# Altium footprint library YakupTrkn.PcbLib: 4 footprints
Each footprint in its own frame and in the unit in brackets; x right, y up, seen from the top. Pads: shape width x height; smd on the part's side, far side on the other; paste and mask are expansions set on the pad; w line width, h text height; cw(c..) or ccw(c..) is an arc to the next point about the centre after c.
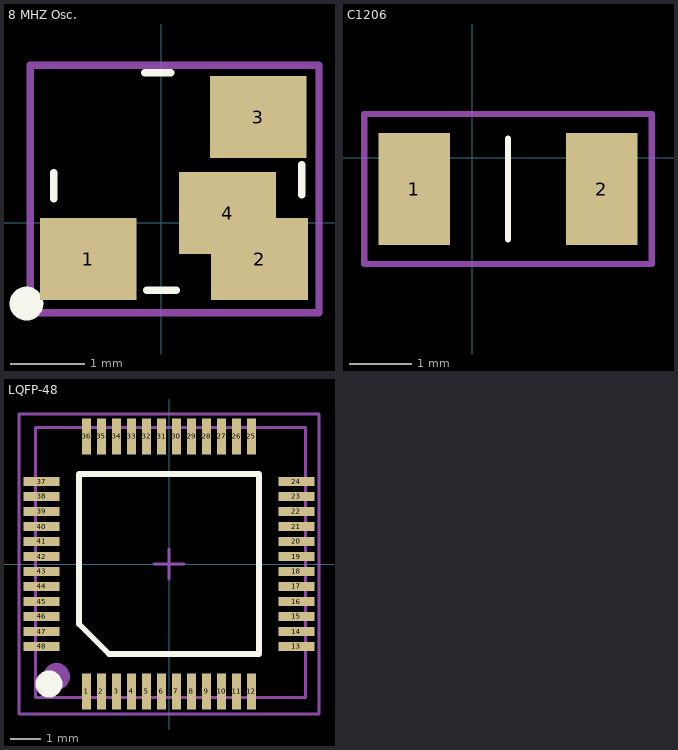
[diagram p0: the footprints below, top view; thin cyan lines are the x and y axes]

## 8 MHZ Osc. [mm]
pads (4):
  rect 1.3x1.1 smd mask+0.05: 1(-0.981,-0.49) 2(1.319,-0.49) 3(1.303,1.417) 4(0.889,0.127)
Top Overlay:
  circle w0.254: c-1.812,-1.089 r0.1
  lines w0.1: -1.445,0.318 -1.445,0.672 ; -0.224,2.01 0.13,2.01 ; -0.199,-0.911 0.201,-0.911 ; 1.884,0.376 1.884,0.776
Top Component Center:
  circle w0.254: c-1.216,-0.524 r0.1
  lines w0.1: -1.761,-1.211 -1.761,2.113 2.118,2.113 2.118,-1.211 -1.761,-1.211
3D body "ASE3.STEP": height 1.22, standoff -0.03, extent -1.379,-0.641 1.821,1.859

## C1206 [mm]
pads (2):
  rect 1.15x1.8 smd mask+0.05: 1(-0.925,-0.5) 2(2.075,-0.5)
Top Overlay:
  lines w0.1: 0.575,-1.305 0.575,0.305
Top Component Center:
  lines w0.1: -1.725,-1.7 -1.725,0.7 2.875,0.7 2.875,-1.7 -1.725,-1.7
3D body "1206CAP.step": height 1, standoff 0, extent -1.025,-1.3 2.175,0.3

## LQFP-48 [mm] "7mm x 7mm"
pads (48):
  rect 0.3x1.2 smd mask+0.05: 1(-2.75,-4.25) 2(-2.25,-4.25) 3(-1.75,-4.25) 4(-1.25,-4.25) 5(-0.75,-4.25) 6(-0.25,-4.25) 7(0.25,-4.25) 8(0.75,-4.25) 9(1.25,-4.25) 10(1.75,-4.25) 11(2.25,-4.25) 12(2.75,-4.25) 25(2.75,4.25) 26(2.25,4.25) 27(1.75,4.25) 28(1.25,4.25) 29(0.75,4.25) 30(0.25,4.25) 31(-0.25,4.25) 32(-0.75,4.25) 33(-1.25,4.25) 34(-1.75,4.25) 35(-2.25,4.25) 36(-2.75,4.25)
  rect 1.2x0.3 smd mask+0.05: 13(4.25,-2.75) 14(4.25,-2.25) 15(4.25,-1.75) 16(4.25,-1.25) 17(4.25,-0.75) 18(4.25,-0.25) 19(4.25,0.25) 20(4.25,0.75) 21(4.25,1.25) 22(4.25,1.75) 23(4.25,2.25) 24(4.25,2.75) 37(-4.25,2.75) 38(-4.25,2.25) 39(-4.25,1.75) 40(-4.25,1.25) 41(-4.25,0.75) 42(-4.25,0.25) 43(-4.25,-0.25) 44(-4.25,-0.75) 45(-4.25,-1.25) 46(-4.25,-1.75) 47(-4.25,-2.25) 48(-4.25,-2.75)
Top Overlay:
  circle w0.5: c-4,-4 r0.2
  lines w0.2: -3,-2 -2,-3 3,-3 3,3 -3,3 -3,-2
Top 3D Body:
  circle w0.5: c-3.75,-3.75 r0.2
  lines w0.1: -4.454,-4.452 4.548,-4.452 4.548,4.551 -4.454,4.551 -4.454,-4.452
Top Component Center:
  lines w0.1: -0.5,0 0.5,0 ; 0,-0.5 0,0.5 ; -5,-5 -5,5 5,5 5,-5 -5,-5
Top Designator:
  lines w0.1: -5,-5 5,-5 5,5 -5,5 -5,-5
  text ".Designator" at -1.868,-0.258 h1.52
3D body "STM32-LQFP48.SLDPRT": height 1.5, standoff 0, extent -4.45,-4.45 4.55,4.55

## PCBComponent_1 [mm]